# Altium integrated library V23105A5301A201.IntLib: 1 symbol
Pins are listed as number, name and electrical type; pins without a type are passive.

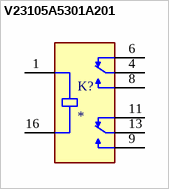
[diagram p0: symbol V23105A5301A201]

## V23105A5301A201
designator K?
Industrial Control, Relays, I/O Modules, spdt, relay, Relays and Accessories; MF: TE Connectivity; MP: V23105-A5301-A201; SnapEDA_Link: https://www.snapeda.com/parts/V23105-A5301-A201/TE+Connectivity+Potter+%2526+Brumfield+Relays/view-part/?ref=snap; Package: None; Value: *; Check_prices: https://www.snapeda.com/parts/V23105-A5301-A201/TE+Connectivity+Potter+%2526+Brumfield+Relays/view-part/?ref=eda
footprint RELAY_9-1393792-3
pins: 1 COIL1, 4 COM1, 6 NC1, 8 NO1, 9 NO2, 11 NC2, 13 COM2, 16 COIL2